# Altium footprint library PCB - LED - APDA Series.PcbLib: 1 footprints
Each footprint in its own frame and in the unit in brackets; x right, y up, seen from the top. Pads: shape width x height; smd on the part's side, far side on the other; paste and mask are expansions set on the pad; w line width, h text height; cw(c..) or ccw(c..) is an arc to the next point about the centre after c.
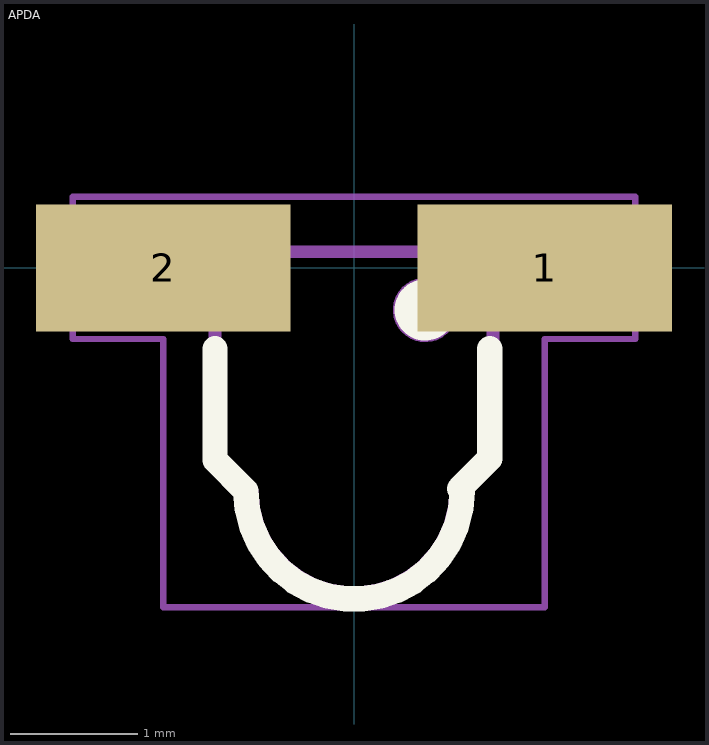
[diagram p0: the footprint, top view; thin cyan lines are the x and y axes]

## APDA [mm] "LED 3.0 mm x 2.0 mm SMD, 2.8 mm thickness"
pads (2):
  rect 2x1 smd: 1(1.5,0) 2(-1.5,0)
Top Overlay:
  circle w0.254: c0.559,-0.33 r0.114
  lines w0.2: -1.092,-0.635 -1.092,-0.914 -1.092,-1.51 -0.85,-1.753 ccw(c0,-1.753) 0.85,-1.753 ; 0.831,-1.734 1.067,-1.499 1.067,-0.914 1.067,-0.635
Top Solder:
  lines w0.127: 0.839,-1.753 0.839,-1.727
Top Assembly:
  lines w0.2: -1.499,0.102 -1.499,-0.356 -1.092,-0.356 ; 1.067,-0.381 1.092,-0.356 1.524,-0.356 1.524,0.102
Mechanical 13:
  circle w0.1: c0.559,-0.33 r0.203
  lines w0.1: -0.838,-1.753 -1.092,-1.499 -1.092,-0.305 -1.524,-0.305 -1.524,0.127 1.499,0.127 1.499,-0.305 1.092,-0.305 1.092,-1.448 1.067,-1.473 0.838,-1.702 ; -0.8,-1.753 ccw(c0,-1.753) 0.8,-1.753
Mechanical 15:
  lines w0.05: -2.21,-0.559 -2.21,0.559 -0.61,0.559 0.584,0.559 2.21,0.559 2.21,-0.559 1.499,-0.559 1.499,-2.667 -1.499,-2.667 -1.499,-0.559 -2.21,-0.559
3D body "APBDA3020.STEP": height 2.02, standoff 0.02, extent -1.5,-2.55 1.5,0.251
3D body: height 0.8, standoff -0.8, extent -0.762,-2.413 -0.762,-2.413